# Altium footprint library Button_Switch_SMD.PcbLib: 169 footprints (part 11 of 12)
Each footprint in its own frame and in the unit in brackets; x right, y up, seen from the top. Pads: shape width x height; smd on the part's side, far side on the other; paste and mask are expansions set on the pad; w line width, h text height; cw(c..) or ccw(c..) is an arc to the next point about the centre after c.
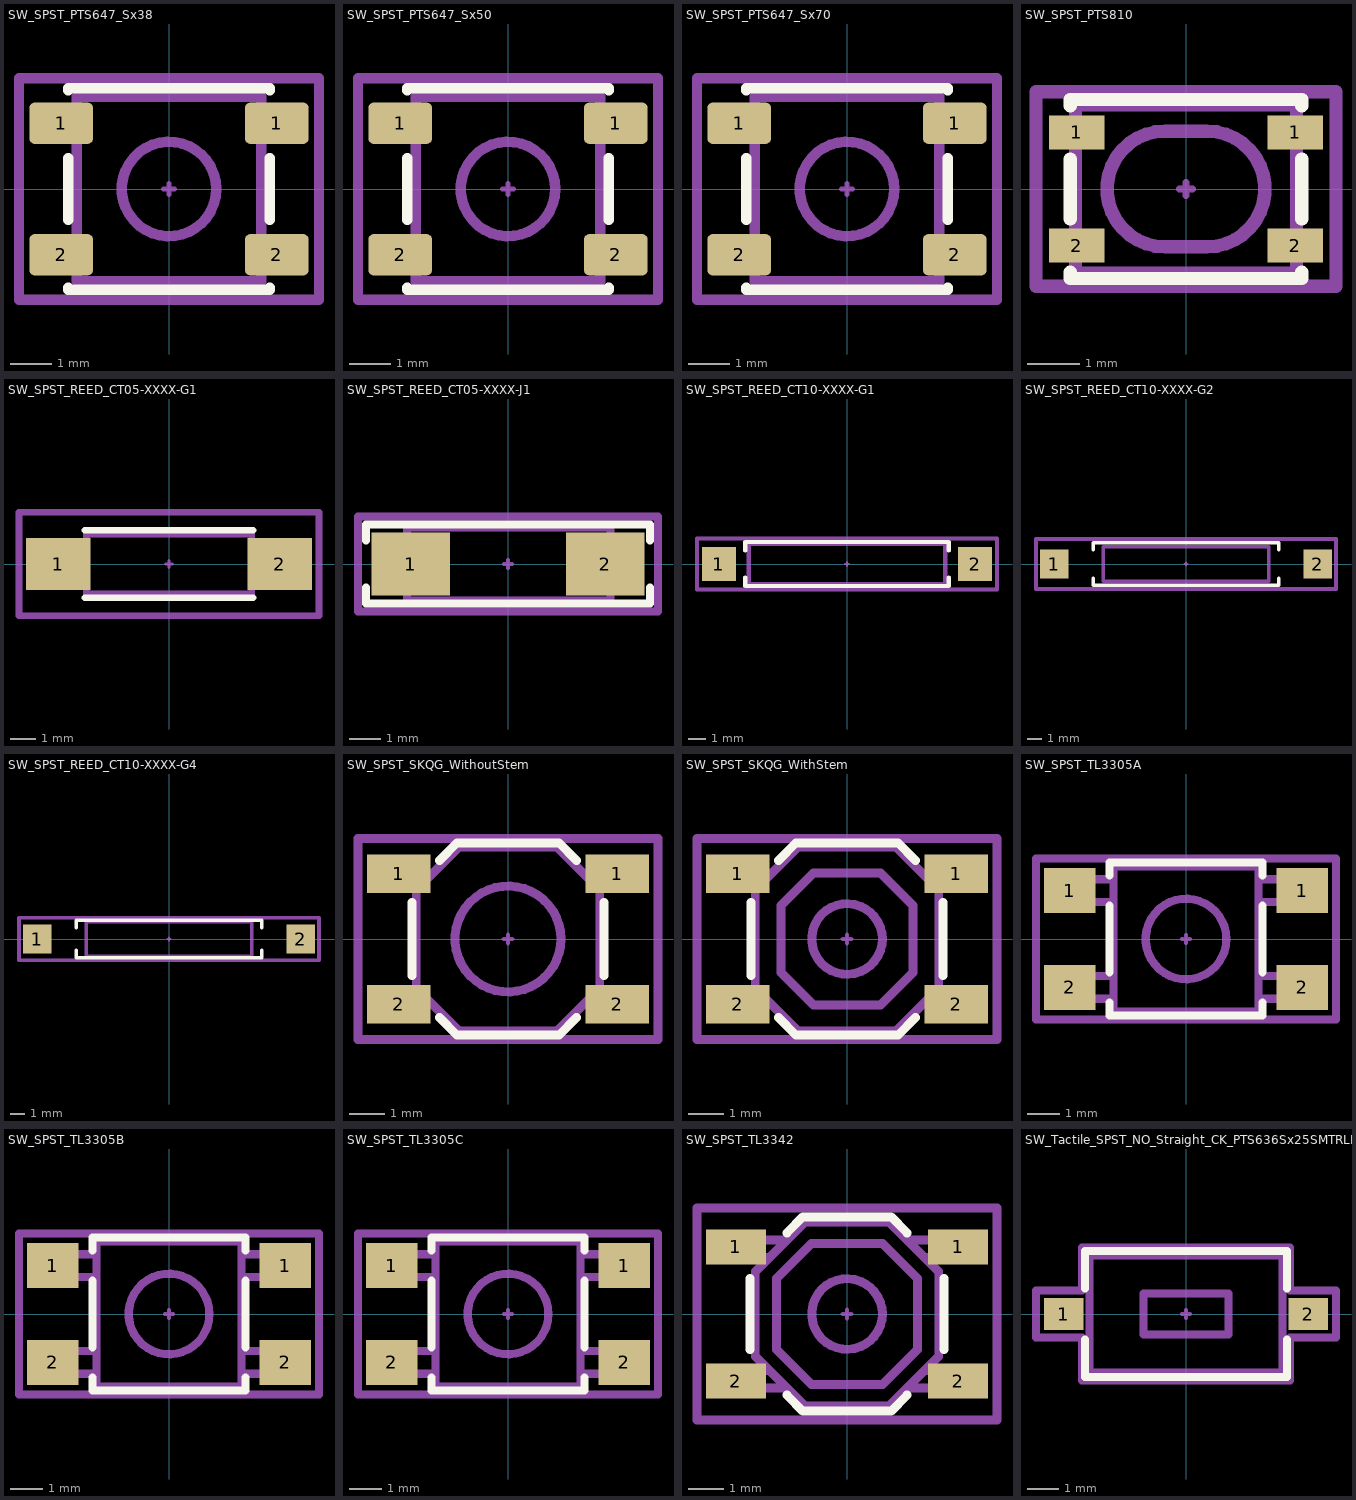
[diagram p10: the footprints below, top view; thin cyan lines are the x and y axes]

## SW_SPST_PTS647_Sx38 [mm]
pads (4):
  rrect25% 1.55x1 smd: 1(-2.625,1.6) 1(2.625,1.6) 2(-2.625,-1.6) 2(2.625,-1.6)
F.SilkS:
  lines w0.254: -2.45,-2.4 -2.45,-2.45 2.45,-2.45 2.45,-2.4 ; -2.45,-0.75 -2.45,0.75 ; -2.45,2.4 -2.45,2.45 2.45,2.45 2.45,2.4 ; 2.45,-0.75 2.45,0.75
Top Component Center:
  lines w0.127: -0.127,0 0.127,0 ; 0,-0.127 0,0.127
Top Assembly:
  circle w0.254: c0,0 r1.15
  lines w0.254: -2.25,-2.25 2.25,-2.25 2.25,2.25 -2.25,2.25 -2.25,-2.25
Top Courtyard:
  lines w0.254: -3.65,-2.7 3.65,-2.7 3.65,2.7 -3.65,2.7 -3.65,-2.7
Top Designator:
  text ".Designator" at -3.432,-0.345 h1.52
3D body "SW_SPST_PTS647Sx38.step": height 3.8, standoff 0, extent -3.25,-2.25 3.25,2.25

## SW_SPST_PTS647_Sx50 [mm] "SW_SPST_PTS647_Sx50"
pads (4):
  rrect25% 1.55x1 smd: 1(-2.625,1.6) 1(2.625,1.6) 2(-2.625,-1.6) 2(2.625,-1.6)
F.SilkS:
  lines w0.254: -2.45,-2.4 -2.45,-2.45 2.45,-2.45 2.45,-2.4 ; -2.45,-0.75 -2.45,0.75 ; -2.45,2.4 -2.45,2.45 2.45,2.45 2.45,2.4 ; 2.45,-0.75 2.45,0.75
Top Component Center:
  lines w0.127: -0.127,0 0.127,0 ; 0,-0.127 0,0.127
Top Assembly:
  circle w0.254: c0,0 r1.15
  lines w0.254: -2.25,-2.25 2.25,-2.25 2.25,2.25 -2.25,2.25 -2.25,-2.25
Top Courtyard:
  lines w0.254: -3.65,-2.7 3.65,-2.7 3.65,2.7 -3.65,2.7 -3.65,-2.7
Top Designator:
  text ".Designator" at -3.432,-0.345 h1.52
3D body "SW_SPST_PTS647Sx50.step": height 5, standoff 0, extent -3.25,-2.25 3.25,2.25

## SW_SPST_PTS647_Sx70 [mm] "SW_SPST_PTS647_Sx70"
pads (4):
  rrect25% 1.55x1 smd: 1(-2.625,1.6) 1(2.625,1.6) 2(-2.625,-1.6) 2(2.625,-1.6)
F.SilkS:
  lines w0.254: -2.45,-2.4 -2.45,-2.45 2.45,-2.45 2.45,-2.4 ; -2.45,-0.75 -2.45,0.75 ; -2.45,2.4 -2.45,2.45 2.45,2.45 2.45,2.4 ; 2.45,-0.75 2.45,0.75
Top Component Center:
  lines w0.127: -0.127,0 0.127,0 ; 0,-0.127 0,0.127
Top Assembly:
  circle w0.254: c0,0 r1.15
  lines w0.254: -2.25,-2.25 -2.25,2.25 2.25,2.25 2.25,-2.25 -2.25,-2.25
Top Courtyard:
  lines w0.254: -3.65,-2.7 -3.65,2.7 3.65,2.7 3.65,-2.7 -3.65,-2.7
Top Designator:
  text ".Designator" at -3.432,-0.345 h1.52
3D body "SW_SPST_PTS647Sx70.step": height 7, standoff 0, extent -3.25,-2.25 3.25,2.25

## SW_SPST_PTS810 [mm] "SW_SPST_PTS810"
pads (4):
  rect 1.05x0.65 smd: 1(-2.075,1.075) 1(2.075,1.075) 2(-2.075,-1.075) 2(2.075,-1.075)
F.SilkS:
  lines w0.254: -2.2,-1.58 -2.2,-1.7 2.2,-1.7 2.2,-1.58 ; -2.2,-0.57 -2.2,0.57 ; -2.2,1.58 -2.2,1.7 2.2,1.7 2.2,1.58 ; 2.2,-0.57 2.2,0.57
Top Component Center:
  lines w0.127: -0.127,0 0.127,0 ; 0,-0.127 0,0.127
Top Assembly:
  lines w0.254: -2.1,-1.6 -2.1,1.6 2.1,1.6 2.1,-1.6 -2.1,-1.6 ; -0.4,-1.1 cw(c-0.4,0) -0.4,1.1 0.4,1.1 cw(c0.4,0) 0.4,-1.1 -0.4,-1.1
Top Courtyard:
  lines w0.254: -2.85,-1.85 -2.85,1.85 2.85,1.85 2.85,-1.85 -2.85,-1.85
Top Designator:
  text ".Designator" at -3.432,-0.345 h1.52

## SW_SPST_REED_CT05-XXXX-G1 [mm] "SW_SPST_REED_CT05-XXXX-G1"
pads (2):
  rect 2.5x2 smd: 1(-4.28,0) 2(4.28,0)
F.SilkS:
  lines w0.254: -3.25,-1.3 3.25,-1.3 ; -3.25,1.3 3.25,1.3
Top Component Center:
  lines w0.127: -0.127,0 0.127,0 ; 0,-0.127 0,0.127
Top Assembly:
  lines w0.254: -3.2,-1.15 3.2,-1.15 3.2,1.15 -3.2,1.15 -3.2,-1.15
Top Courtyard:
  lines w0.254: -5.8,-2 5.8,-2 5.8,2 -5.8,2 -5.8,-2
Top Designator:
  text ".Designator" at -3.432,-0.345 h1.52
3D body "SW_SPST_REED_CT05-XXXX-G1.step": height 2.9, standoff 0, extent -5.03,-1.75 5.03,1.75

## SW_SPST_REED_CT05-XXXX-J1 [mm] "SW_SPST_REED_CT05-XXXX-J1"
pads (2):
  rect 2.5x2 smd: 1(-3.08,0) 2(3.08,0)
F.SilkS:
  lines w0.254: -4.5,-0.75 -4.5,-1.25 4.5,-1.25 4.5,-0.75 ; -4.5,0.75 -4.5,1.25 4.5,1.25 4.5,0.75
Top Component Center:
  lines w0.127: -0.127,0 0.127,0 ; 0,-0.127 0,0.127
Top Assembly:
  lines w0.254: -3.2,-1.15 -3.2,1.15 3.25,1.15 3.25,-1.15 -3.2,-1.15
Top Courtyard:
  lines w0.254: -4.75,-1.5 -4.75,1.5 4.75,1.5 4.75,-1.5 -4.75,-1.5
Top Designator:
  text ".Designator" at -3.432,-0.345 h1.52
3D body "SW_SPST_REED_CT05-XXXX-J1.step": height 2.9, standoff 0, extent -3.25,-1.75 3.25,1.75

## SW_SPST_REED_CT10-XXXX-G1 [mm] "SW_SPST_REED_CT10-XXXX-G1"
pads (2):
  rect 2x2 smd: 1(-7.56,0) 2(7.56,0)
F.SilkS:
  lines w0.254: -6,-0.8 -6,-1.3 6,-1.3 6,-0.8 ; -6,0.8 -6,1.3 6,1.3 6,0.8
Top Component Center:
  lines w0.127: -0.127,0 0.127,0 ; 0,-0.127 0,0.127
Top Assembly:
  lines w0.254: -5.8,-1.2 5.8,-1.2 5.8,1.2 -5.8,1.2 -5.8,-1.2
Top Courtyard:
  lines w0.254: -8.85,-1.5 8.85,-1.5 8.85,1.5 -8.85,1.5 -8.85,-1.5
Top Designator:
  text ".Designator" at -3.432,-0.345 h1.52
3D body "SW_SPST_REED_CT10-XXXX-G1.step": height 2.9, standoff 0, extent -8.31,-1.2 8.31,1.2

## SW_SPST_REED_CT10-XXXX-G2 [mm] "SW_SPST_REED_CT10-XXXX-G2"
pads (2):
  rect 2x2 smd: 1(-9.21,0) 2(9.21,0)
F.SilkS:
  lines w0.254: -6.5,-1 -6.5,-1.5 6.5,-1.5 6.5,-1 ; -6.5,1 -6.5,1.5 6.5,1.5 6.5,1
Top Component Center:
  lines w0.127: -0.127,0 0.127,0 ; 0,-0.127 0,0.127
Top Assembly:
  lines w0.254: -5.8,-1.2 5.8,-1.2 5.8,1.2 -5.8,1.2 -5.8,-1.2
Top Courtyard:
  lines w0.254: -10.5,-1.75 10.5,-1.75 10.5,1.75 -10.5,1.75 -10.5,-1.75
Top Designator:
  text ".Designator" at -3.432,-0.345 h1.52
3D body "SW_SPST_REED_CT10-XXXX-G2.step": height 2.9, standoff 0, extent -9.96,-1.2 9.96,1.2

## SW_SPST_REED_CT10-XXXX-G4 [mm] "SW_SPST_REED_CT10-XXXX-G4"
pads (2):
  rect 2x2 smd: 1(-9.22,0) 2(9.22,0)
F.SilkS:
  lines w0.254: -6.5,-0.8 -6.5,-1.3 6.5,-1.3 6.5,-0.8 ; -6.5,0.8 -6.5,1.3 6.5,1.3 6.5,0.8
Top Component Center:
  lines w0.127: -0.127,0 0.127,0 ; 0,-0.127 0,0.127
Top Assembly:
  lines w0.254: -5.8,-1.2 -5.8,1.2 5.8,1.2 5.8,-1.2 -5.8,-1.2
Top Courtyard:
  lines w0.254: -10.5,-1.5 -10.5,1.5 10.5,1.5 10.5,-1.5 -10.5,-1.5
Top Designator:
  text ".Designator" at -3.432,-0.345 h1.52
3D body "SW_SPST_REED_CT10-XXXX-G4.step": height 2.9, standoff 0, extent -9.97,-1.2 9.97,1.2

## SW_SPST_SKQG_WithoutStem [mm] "SW_SPST_SKQG_WithoutStem"
pads (4):
  rect 1.8x1.1 smd: 1(-3.1,1.85) 1(3.1,1.85) 2(-3.1,-1.85) 2(3.1,-1.85)
F.SilkS:
  lines w0.254: -2.72,-1.04 -2.72,1.04 ; -1.94,-2.23 -1.45,-2.72 1.45,-2.72 1.94,-2.23 ; -1.94,2.23 -1.45,2.72 1.45,2.72 1.94,2.23 ; 2.72,-1.04 2.72,1.04
Top Component Center:
  lines w0.127: -0.127,0 0.127,0 ; 0,-0.127 0,0.127
Top Assembly:
  circle w0.254: c0,0 r1.5
  lines w0.254: -2.6,-1.4 -2.6,1.4 -1.4,2.6 1.4,2.6 2.6,1.4 2.6,-1.4 1.4,-2.6 -1.4,-2.6 -2.6,-1.4
Top Courtyard:
  lines w0.254: -4.25,-2.85 -4.25,2.85 4.25,2.85 4.25,-2.85 -4.25,-2.85
Top Designator:
  text ".Designator" at -3.432,-0.345 h1.52
Cmts.User:
  text "KEEP-OUT ZONE" at 1.324,0.07 h0.2
  text "KEEP-OUT ZONE" at -3.676,0.07 h0.2
  text "No F.Cu tracks" at 1.47,-0.33 h0.2
  text "No F.Cu tracks" at -3.53,-0.33 h0.2

## SW_SPST_SKQG_WithStem [mm] "SW_SPST_SKQG_WithStem"
pads (4):
  rect 1.8x1.1 smd: 1(-3.1,1.85) 1(3.1,1.85) 2(-3.1,-1.85) 2(3.1,-1.85)
F.SilkS:
  lines w0.254: -2.72,-1.04 -2.72,1.04 ; -1.94,-2.23 -1.45,-2.72 1.45,-2.72 1.94,-2.23 ; -1.94,2.23 -1.45,2.72 1.45,2.72 1.94,2.23 ; 2.72,-1.04 2.72,1.04
Top Component Center:
  lines w0.127: -0.127,0 0.127,0 ; 0,-0.127 0,0.127
Top Assembly:
  circle w0.254: c0,0 r1
  lines w0.254: -2.6,-1.4 -2.6,1.4 -1.4,2.6 1.4,2.6 2.6,1.4 2.6,-1.4 1.4,-2.6 -1.4,-2.6 -2.6,-1.4 ; -1.865,-0.95 -1.865,0.95 -0.95,1.865 0.95,1.865 1.865,0.95 1.865,-0.95 0.95,-1.865 -0.95,-1.865 -1.865,-0.95
Top Courtyard:
  lines w0.254: -4.25,-2.85 -4.25,2.85 4.25,2.85 4.25,-2.85 -4.25,-2.85
Top Designator:
  text ".Designator" at -3.432,-0.345 h1.52
Cmts.User:
  text "No F.Cu tracks" at 1.47,-0.33 h0.2
  text "No F.Cu tracks" at -3.53,-0.33 h0.2
  text "KEEP-OUT ZONE" at -3.676,0.07 h0.2
  text "KEEP-OUT ZONE" at 1.324,0.07 h0.2

## SW_SPST_TL3305A [mm] "SW_SPST_TL3305A"
pads (4):
  rect 1.6x1.4 smd: 1(-3.6,1.5) 1(3.6,1.5) 2(-3.6,-1.5) 2(3.6,-1.5)
F.SilkS:
  lines w0.254: -2.37,-1.97 -2.37,-2.37 2.37,-2.37 2.37,-1.97 ; -2.37,-1.03 -2.37,1.03 ; -2.37,1.97 -2.37,2.37 2.37,2.37 2.37,1.97 ; 2.37,-1.03 2.37,1.03
Top Component Center:
  lines w0.127: -0.127,0 0.127,0 ; 0,-0.127 0,0.127
Top Assembly:
  circle w0.254: c0,0 r1.25
  lines w0.254: -3,-1.85 -3,-1.15 ; -3,1.15 -3,1.85 ; -2.25,-1.85 -3.75,-1.85 -3.75,-1.15 -2.25,-1.15 ; -2.25,1.15 -3.75,1.15 -3.75,1.85 -2.25,1.85 ; 2.25,-1.85 3.75,-1.85 3.75,-1.15 2.25,-1.15 ; 2.25,1.15 3.75,1.15 3.75,1.85 2.25,1.85 ; 3,-1.85 3,-1.15 ; 3,1.15 3,1.85 ; -2.25,-2.25 2.25,-2.25 2.25,2.25 -2.25,2.25 -2.25,-2.25
Top Courtyard:
  lines w0.254: -4.65,-2.5 4.65,-2.5 4.65,2.5 -4.65,2.5 -4.65,-2.5
Top Designator:
  text ".Designator" at -3.432,-0.345 h1.52

## SW_SPST_TL3305B [mm] "SW_SPST_TL3305B"
pads (4):
  rect 1.6x1.4 smd: 1(-3.6,1.5) 1(3.6,1.5) 2(-3.6,-1.5) 2(3.6,-1.5)
F.SilkS:
  lines w0.254: -2.37,-1.97 -2.37,-2.37 2.37,-2.37 2.37,-1.97 ; -2.37,-1.03 -2.37,1.03 ; -2.37,1.97 -2.37,2.37 2.37,2.37 2.37,1.97 ; 2.37,-1.03 2.37,1.03
Top Component Center:
  lines w0.127: -0.127,0 0.127,0 ; 0,-0.127 0,0.127
Top Assembly:
  circle w0.254: c0,0 r1.25
  lines w0.254: -3,-1.85 -3,-1.15 ; -3,1.15 -3,1.85 ; -2.25,-1.85 -3.75,-1.85 -3.75,-1.15 -2.25,-1.15 ; -2.25,1.15 -3.75,1.15 -3.75,1.85 -2.25,1.85 ; 2.25,-1.85 3.75,-1.85 3.75,-1.15 2.25,-1.15 ; 2.25,1.15 3.75,1.15 3.75,1.85 2.25,1.85 ; 3,-1.85 3,-1.15 ; 3,1.15 3,1.85 ; -2.25,-2.25 2.25,-2.25 2.25,2.25 -2.25,2.25 -2.25,-2.25
Top Courtyard:
  lines w0.254: -4.65,-2.5 4.65,-2.5 4.65,2.5 -4.65,2.5 -4.65,-2.5
Top Designator:
  text ".Designator" at -3.432,-0.345 h1.52

## SW_SPST_TL3305C [mm] "SW_SPST_TL3305C"
pads (4):
  rect 1.6x1.4 smd: 1(-3.6,1.5) 1(3.6,1.5) 2(-3.6,-1.5) 2(3.6,-1.5)
F.SilkS:
  lines w0.254: -2.37,-1.97 -2.37,-2.37 2.37,-2.37 2.37,-1.97 ; -2.37,-1.03 -2.37,1.03 ; -2.37,1.97 -2.37,2.37 2.37,2.37 2.37,1.97 ; 2.37,-1.03 2.37,1.03
Top Component Center:
  lines w0.127: -0.127,0 0.127,0 ; 0,-0.127 0,0.127
Top Assembly:
  circle w0.254: c0,0 r1.25
  lines w0.254: -3,-1.85 -3,-1.15 ; -3,1.15 -3,1.85 ; -2.25,-1.85 -3.75,-1.85 -3.75,-1.15 -2.25,-1.15 ; -2.25,1.15 -3.75,1.15 -3.75,1.85 -2.25,1.85 ; 2.25,-1.85 3.75,-1.85 3.75,-1.15 2.25,-1.15 ; 2.25,1.15 3.75,1.15 3.75,1.85 2.25,1.85 ; 3,-1.85 3,-1.15 ; 3,1.15 3,1.85 ; -2.25,-2.25 -2.25,2.25 2.25,2.25 2.25,-2.25 -2.25,-2.25
Top Courtyard:
  lines w0.254: -4.65,-2.5 -4.65,2.5 4.65,2.5 4.65,-2.5 -4.65,-2.5
Top Designator:
  text ".Designator" at -3.432,-0.345 h1.52

## SW_SPST_TL3342 [mm] "SW_SPST_TL3342"
pads (4):
  rect 1.7x1 smd: 1(-3.15,1.9) 1(3.15,1.9) 2(-3.15,-1.9) 2(3.15,-1.9)
F.SilkS:
  lines w0.254: -2.75,-1 -2.75,1 ; -1.7,-2.3 -1.25,-2.75 1.25,-2.75 1.7,-2.3 ; -1.7,2.3 -1.25,2.75 1.25,2.75 1.7,2.3 ; 2.75,-1 2.75,1
Top Component Center:
  lines w0.127: -0.127,0 0.127,0 ; 0,-0.127 0,0.127
Top Assembly:
  circle w0.254: c0,0 r1
  lines w0.254: -2.7,-2.1 -2.7,-1.6 ; -2.7,1.6 -2.7,2.1 ; -2.2,-1.6 -3.2,-1.6 -3.2,-2.1 -1.7,-2.1 ; -2.2,1.6 -3.2,1.6 -3.2,2.1 -1.7,2.1 ; 1.7,-2.1 3.2,-2.1 3.2,-1.6 2.2,-1.6 ; 1.7,2.1 3.2,2.1 3.2,1.6 2.2,1.6 ; 2.7,-2.1 2.7,-1.6 ; 2.7,1.6 2.7,2.1 ; -2.6,-1.2 -2.6,1.2 -1.2,2.6 1.2,2.6 2.6,1.2 2.6,-1.2 1.2,-2.6 -1.2,-2.6 -2.6,-1.2 ; -2,-1 -2,1 -1,2 1,2 2,1 2,-1 1,-2 -1,-2 -2,-1
Top Courtyard:
  lines w0.254: -4.25,-3 -4.25,3 4.25,3 4.25,-3 -4.25,-3
Top Designator:
  text ".Designator" at -3.432,-0.345 h1.52
3D body "SW_SPST_TL3342.step": height 1.54, standoff 0, extent -3.2,-2.6 3.2,2.6

## SW_Tactile_SPST_NO_Straight_CK_PTS636Sx25SMTRLFS [mm] "SW_Tactile_SPST_NO_Straight_CK_PTS636Sx25SMTRLFS"
pads (2):
  rect 1.25x1 smd: 1(-3.875,0) 2(3.875,0)
F.SilkS:
  lines w0.254: -3.2,-0.8 -3.2,-2 3.2,-2 3.2,-0.8 ; -3.2,0.8 -3.2,2 3.2,2 3.2,0.8
Top Component Center:
  lines w0.127: -0.127,0 0.127,0 ; 0,-0.127 0,0.127
Top Assembly:
  lines w0.254: -3.05,-1.85 -3.05,1.85 3.05,1.85 3.05,-1.85 -3.05,-1.85
Top Courtyard:
  lines w0.254: -4.75,-0.75 -4.75,0.75 -3.3,0.75 -3.3,2.1 3.3,2.1 3.3,0.75 4.75,0.75 4.75,-0.75 3.3,-0.75 3.3,-2.1 -3.3,-2.1 -3.3,-0.75 -4.75,-0.75
Top Designator:
  text ".Designator" at -3.432,-0.345 h1.52
Dwgs.User:
  lines w0.254: -1.35,-0.65 -1.35,0.65 1.35,0.65 1.35,-0.65 -1.35,-0.65
3D body "SW_Tactile_SPST_NO_Straight_CK_PTS636Sx25SMTRLFS.step": height 2.5, standoff -0.05, extent -4,-1.85 4,1.85